# Altium integrated library Renesas Microprocessor SuperH.IntLib: 433 symbols (part 30 of 62)
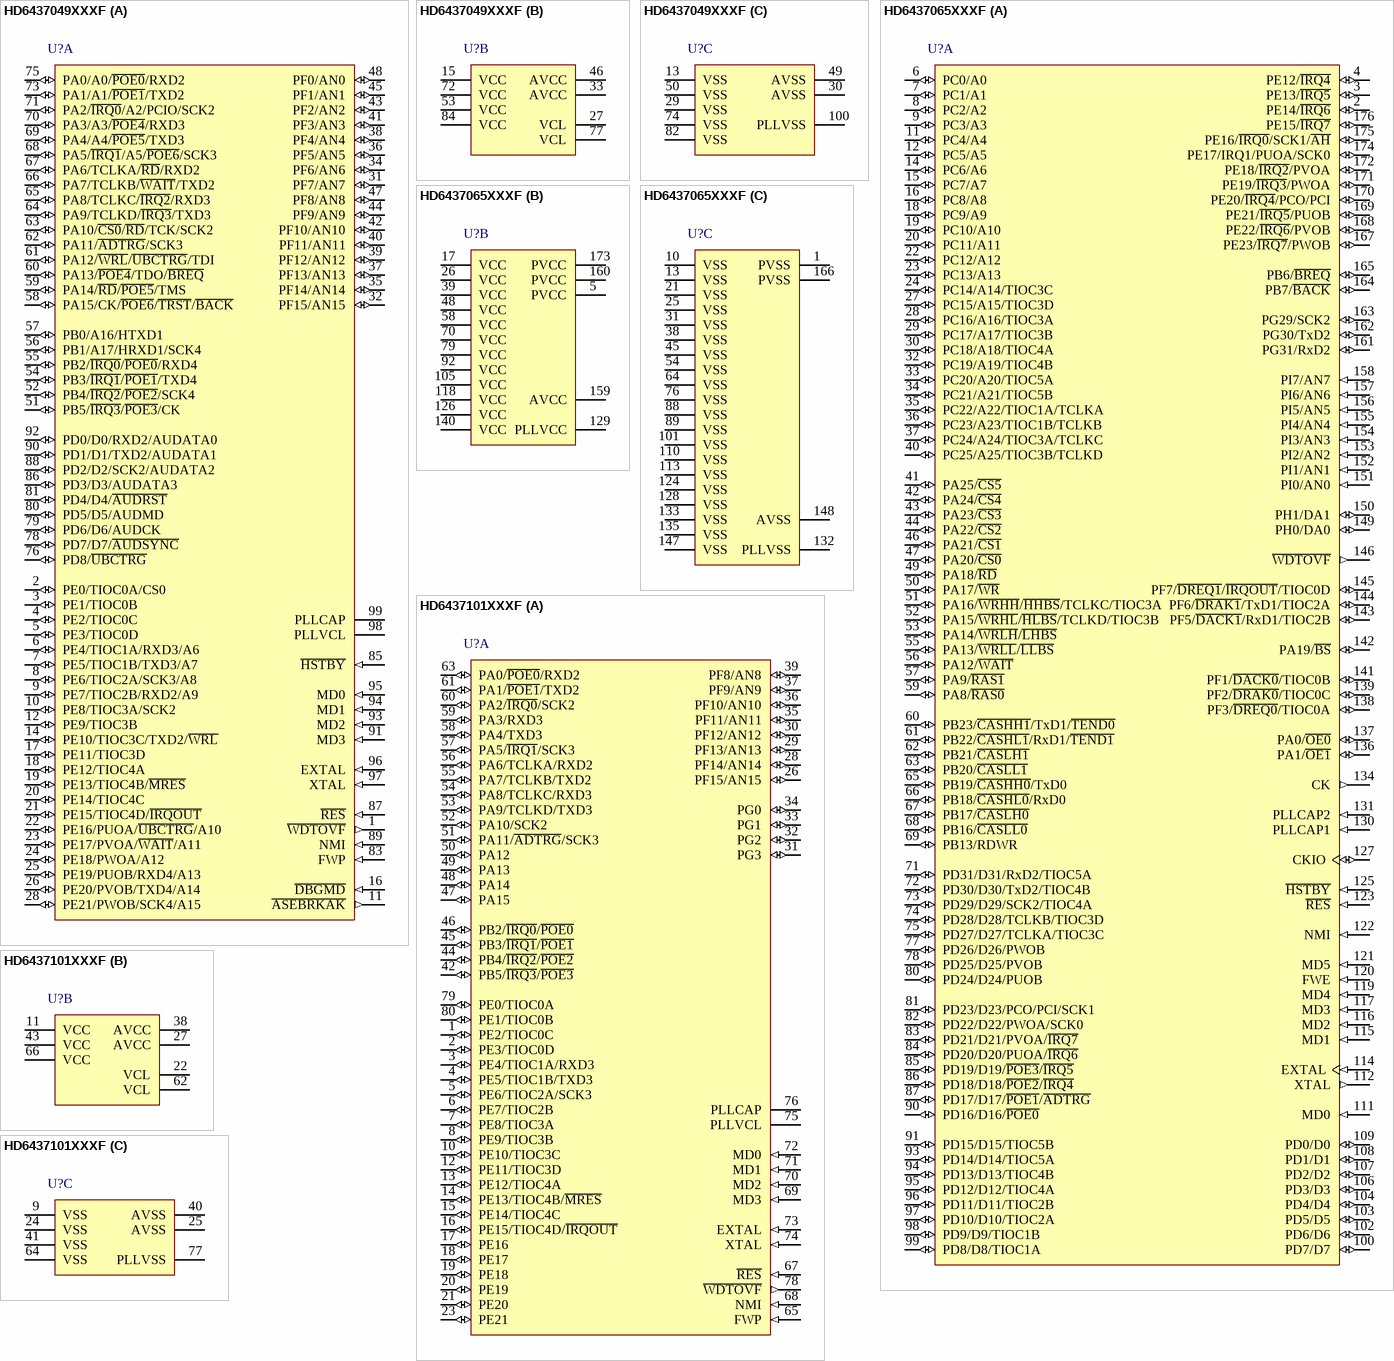
[diagram p400: symbols HD6437049XXXF to HD6437101XXXF]

## HD6437101XXXF
designator U?
32-Bit RISC Microcomputer, SH7046 Series, SH-2 core, 40MHz, 32K ROM, 2K RAM, PRQP0080JD-A (FP-80Q) Package; Published: 28-Aug-2009; DatasheetVersion: Rev.2.00, Sep-2007; PackageVersion: Sep-2005; PackageReference: PRQP0080JD-A; Publisher: Altium Limited; PackageDescription: 80-Pin Plastic Quad Flat Pack, 14 x 14 x 2.7 mm Body, 0.65 mm Pitch; Code_JEITA: P-QFP80-14x14-0.65; Code_IPC: QFP65P1720X1720-80; ComponentLink1Description: Manufacturer Link; ComponentLink1URL: http://www.renesas.com/fmwk.jsp?cnt=sh7046_root.jsp&fp=/products/mpumcu/superh_family/sh7046_series/sh7046_group/; ComponentLink2Description: Datasheet; ComponentLink2URL: http://documentation.renesas.com/eng/products/mpumcu/rej09b0394_7101hm.pdf; ComponentLink3Description: Packaging Specification; ComponentLink3URL: http://sg.renesas.com/media/products/common_info/package/pdf/ic/code/prqp0080jd_a.pdf
footprint PRQP0080JD-A_N (QFP, 80-Leads, Body 14x14mm, Pitch 0.65mm, IPC Medium Density)
footprint PRQP0080JD-A_L (QFP, 80-Leads, Body 14x14mm, Pitch 0.65mm, IPC High Density)
footprint PRQP0080JD-A_M (QFP, 80-Leads, Body 14x14mm, Pitch 0.65mm, IPC Low Density)
part A pins: 1 PE2/TIOC0C (io), 2 PE3/TIOC0D (io), 3 PE4/TIOC1A/RXD3 (io), 4 PE5/TIOC1B/TXD3 (io), 5 PE6/TIOC2A/SCK3 (io), 6 PE7/TIOC2B (io), 7 PE8/TIOC3A (io), 8 PE9/TIOC3B (io), 10 PE10/TIOC3C (io), 12 PE11/TIOC3D (io), 13 PE12/TIOC4A (io), 14 PE13/TIOC4B/~{MRES} (io), 15 PE14/TIOC4C (io), 16 PE15/TIOC4D/~{IRQOUT} (io), 17 PE16 (io), 18 PE17 (io), 19 PE18 (io), 20 PE19 (io), 21 PE20 (io), 23 PE21 (io), 26 PF15/AN15 (io), 28 PF14/AN14 (io), 29 PF13/AN13 (io), 30 PF12/AN12 (io), 31 PG3 (io), 32 PG2 (io), 33 PG1 (io), 34 PG0 (io), 35 PF11/AN11 (io), 36 PF10/AN10 (io), 37 PF9/AN9 (io), 39 PF8/AN8 (io), 42 PB5/~{IRQ3}/~{POE3} (io), 44 PB4/~{IRQ2}/~{POE2} (io), 45 PB3/~{IRQ1}/~{POE1} (io), 46 PB2/~{IRQ0}/~{POE0} (io), 47 PA15 (io), 48 PA14 (io), 49 PA13 (io), 50 PA12 (io), 51 PA11/~{ADTRG}/SCK3 (io), 52 PA10/SCK2 (io), 53 PA9/TCLKD/TXD3 (io), 54 PA8/TCLKC/RXD3 (io), 55 PA7/TCLKB/TXD2 (io), 56 PA6/TCLKA/RXD2 (io), 57 PA5/~{IRQ1}/SCK3 (io), 58 PA4/TXD3 (io), 59 PA3/RXD3 (io), 60 PA2/~{IRQ0}/SCK2 (io), 61 PA1/~{POE1}/TXD2 (io), 63 PA0/~{POE0}/RXD2 (io), 65 FWP (in), 67 ~{RES} (in), 68 NMI (in), 69 MD3 (in), 70 MD2 (in), 71 MD1 (in), 72 MD0 (in), 73 EXTAL (in), 74 XTAL (in), 75 PLLVCL, 76 PLLCAP, 78 ~{WDTOVF} (out), 79 PE0/TIOC0A (io), 80 PE1/TIOC0B (io)
part B pins: 11 VCC (power), 22 VCL, 27 AVCC (power), 38 AVCC (power), 43 VCC (power), 62 VCL, 66 VCC (power)
part C pins: 9 VSS (power), 24 VSS (power), 25 AVSS (power), 40 AVSS (power), 41 VSS (power), 64 VSS (power), 77 PLLVSS (power)

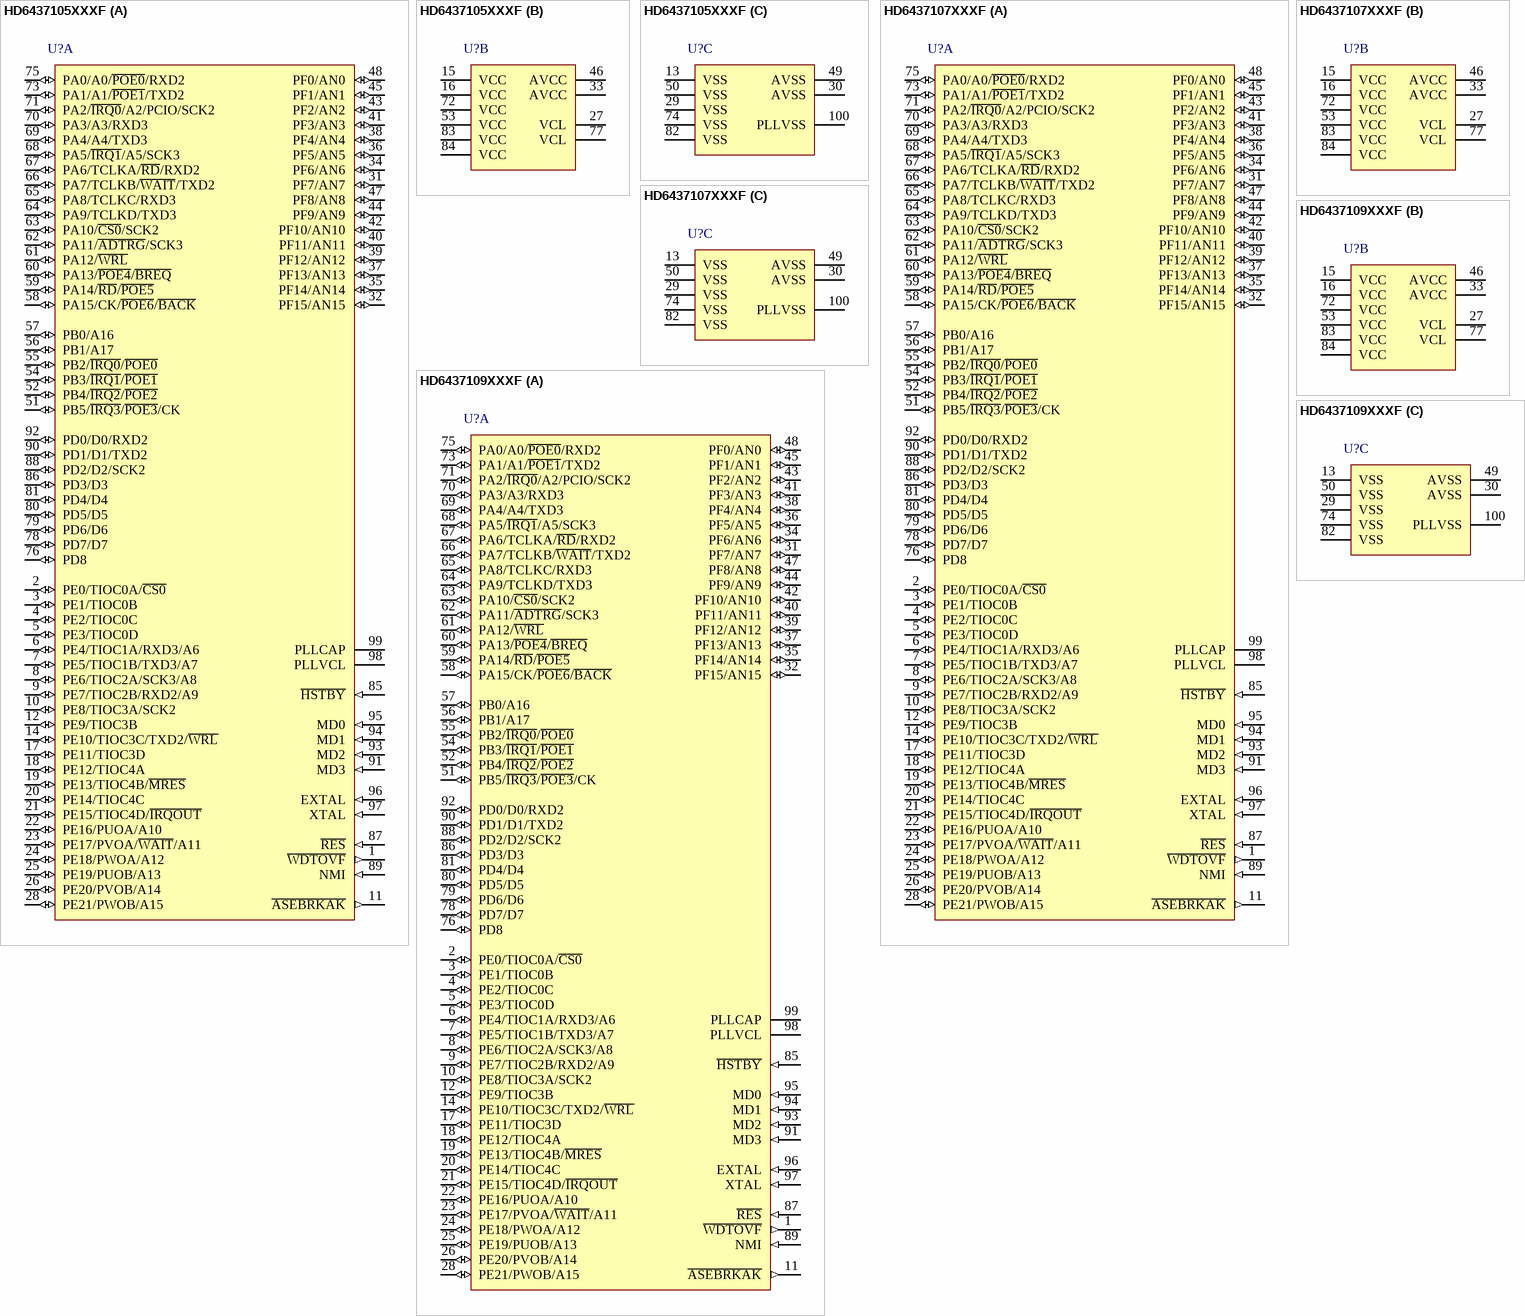
[diagram p110: symbols HD6437105XXXF to HD6437109XXXF]

## HD6437105XXXF
designator U?
32-Bit RISC Microcomputer, SH7047 Series, SH-2 core, 50MHz, 256K ROM, 8K RAM, PRQP0100KB-A (FP-100M) Package; Published: 28-Aug-2009; DatasheetVersion: Rev.1.00, Sep-2008; PackageVersion: Sep-2009; PackageReference: PRQP0100KB-A; Publisher: Altium Limited; PackageDescription: 100-Pin Plastic Quad Flat Pack, 14 x 14 x 2.7 mm Body, 0.5 mm Pitch; Code_JEITA: P-QFP100-14x14-0.50; ComponentLink1Description: Manufacturer Link; ComponentLink1URL: http://www.renesas.com/fmwk.jsp?cnt=sh7047_root.jsp&fp=/products/mpumcu/superh_family/sh7047_series/sh7047_group/; ComponentLink2Description: Datasheet; ComponentLink2URL: http://documentation.renesas.com/eng/products/mpumcu/rej09b0069_7108hm.pdf; ComponentLink3Description: Packaging Specification; ComponentLink3URL: http://sg.renesas.com/media/products/common_info/package/pdf/ic/code/prqp0100kb_a.pdf
footprint PRQP0100KB-A_N (Shrink QFP, 100-Leads, Body 14x14mm, Pitch 0.5mm, IPC Medium Density)
footprint PRQP0100KB-A_L (Shrink QFP, 100-Leads, Body 14x14mm, Pitch 0.5mm, IPC High Density)
footprint PRQP0100KB-A_M (Shrink QFP, 100-Leads, Body 14x14mm, Pitch 0.5mm, IPC Low Density)
part A pins: 1 ~{WDTOVF} (out), 2 PE0/TIOC0A/~{CS0} (io), 3 PE1/TIOC0B (io), 4 PE2/TIOC0C (io), 5 PE3/TIOC0D (io), 6 PE4/TIOC1A/RXD3/A6 (io), 7 PE5/TIOC1B/TXD3/A7 (io), 8 PE6/TIOC2A/SCK3/A8 (io), 9 PE7/TIOC2B/RXD2/A9 (io), 10 PE8/TIOC3A/SCK2 (io), 11 ~{ASEBRKAK} (out), 12 PE9/TIOC3B (io), 14 PE10/TIOC3C/TXD2/~{WRL} (io), 17 PE11/TIOC3D (io), 18 PE12/TIOC4A (io), 19 PE13/TIOC4B/~{MRES} (io), 20 PE14/TIOC4C (io), 21 PE15/TIOC4D/~{IRQOUT} (io), 22 PE16/PUOA/A10 (io), 23 PE17/PVOA/~{WAIT}/A11 (io), 24 PE18/PWOA/A12 (io), 25 PE19/PUOB/A13 (io), 26 PE20/PVOB/A14 (io), 28 PE21/PWOB/A15 (io), 31 PF7/AN7 (io), 32 PF15/AN15 (io), 34 PF6/AN6 (io), 35 PF14/AN14 (io), 36 PF5/AN5 (io), 37 PF13/AN13 (io), 38 PF4/AN4 (io), 39 PF12/AN12 (io), 40 PF11/AN11 (io), 41 PF3/AN3 (io), 42 PF10/AN10 (io), 43 PF2/AN2 (io), 44 PF9/AN9 (io), 45 PF1/AN1 (io), 47 PF8/AN8 (io), 48 PF0/AN0 (io), 51 PB5/~{IRQ3}/~{POE3}/CK (io), 52 PB4/~{IRQ2}/~{POE2} (io), 54 PB3/~{IRQ1}/~{POE1} (io), 55 PB2/~{IRQ0}/~{POE0} (io), 56 PB1/A17 (io), 57 PB0/A16 (io), 58 PA15/CK/~{POE6}/~{BACK} (io), 59 PA14/~{RD}/~{POE5} (io), 60 PA13/~{POE4}/~{BREQ} (io), 61 PA12/~{WRL} (io), 62 PA11/~{ADTRG}/SCK3 (io), 63 PA10/~{CS0}/SCK2 (io), 64 PA9/TCLKD/TXD3 (io), 65 PA8/TCLKC/RXD3 (io), 66 PA7/TCLKB/~{WAIT}/TXD2 (io), 67 PA6/TCLKA/~{RD}/RXD2 (io), 68 PA5/~{IRQ1}/A5/SCK3 (io), 69 PA4/A4/TXD3 (io), 70 PA3/A3/RXD3 (io), 71 PA2/~{IRQ0}/A2/PCIO/SCK2 (io), 73 PA1/A1/~{POE1}/TXD2 (io), 75 PA0/A0/~{POE0}/RXD2 (io), 76 PD8 (io), 78 PD7/D7 (io), 79 PD6/D6 (io), 80 PD5/D5 (io), 81 PD4/D4 (io), 85 ~{HSTBY} (in), 86 PD3/D3 (io), 87 ~{RES} (in), 88 PD2/D2/SCK2 (io), 89 NMI (in), 90 PD1/D1/TXD2 (io), 91 MD3 (in), 92 PD0/D0/RXD2 (io), 93 MD2 (in), 94 MD1 (in), 95 MD0 (in), 96 EXTAL (in), 97 XTAL (in), 98 PLLVCL, 99 PLLCAP
part B pins: 15 VCC (power), 16 VCC (power), 27 VCL, 33 AVCC (power), 46 AVCC (power), 53 VCC (power), 72 VCC (power), 77 VCL, 83 VCC (power), 84 VCC (power)
part C pins: 13 VSS (power), 29 VSS (power), 30 AVSS (power), 49 AVSS (power), 50 VSS (power), 74 VSS (power), 82 VSS (power), 100 PLLVSS (power)

## HD6437107XXXF
designator U?
32-Bit RISC Microcomputer, SH7047 Series, SH-2 core, 50MHz, 64K ROM, 4K RAM, PRQP0100KB-A (FP-100M) Package; Published: 28-Aug-2009; DatasheetVersion: Rev.1.00, Sep-2008; PackageVersion: Sep-2009; PackageReference: PRQP0100KB-A; Publisher: Altium Limited; PackageDescription: 100-Pin Plastic Quad Flat Pack, 14 x 14 x 2.7 mm Body, 0.5 mm Pitch; Code_JEITA: P-QFP100-14x14-0.50; ComponentLink1Description: Manufacturer Link; ComponentLink1URL: http://www.renesas.com/fmwk.jsp?cnt=sh7047_root.jsp&fp=/products/mpumcu/superh_family/sh7047_series/sh7047_group/; ComponentLink2Description: Datasheet; ComponentLink2URL: http://documentation.renesas.com/eng/products/mpumcu/rej09b0069_7108hm.pdf; ComponentLink3Description: Packaging Specification; ComponentLink3URL: http://sg.renesas.com/media/products/common_info/package/pdf/ic/code/prqp0100kb_a.pdf
footprint PRQP0100KB-A_N (Shrink QFP, 100-Leads, Body 14x14mm, Pitch 0.5mm, IPC Medium Density)
footprint PRQP0100KB-A_L (Shrink QFP, 100-Leads, Body 14x14mm, Pitch 0.5mm, IPC High Density)
footprint PRQP0100KB-A_M (Shrink QFP, 100-Leads, Body 14x14mm, Pitch 0.5mm, IPC Low Density)
part A pins: 1 ~{WDTOVF} (out), 2 PE0/TIOC0A/~{CS0} (io), 3 PE1/TIOC0B (io), 4 PE2/TIOC0C (io), 5 PE3/TIOC0D (io), 6 PE4/TIOC1A/RXD3/A6 (io), 7 PE5/TIOC1B/TXD3/A7 (io), 8 PE6/TIOC2A/SCK3/A8 (io), 9 PE7/TIOC2B/RXD2/A9 (io), 10 PE8/TIOC3A/SCK2 (io), 11 ~{ASEBRKAK} (out), 12 PE9/TIOC3B (io), 14 PE10/TIOC3C/TXD2/~{WRL} (io), 17 PE11/TIOC3D (io), 18 PE12/TIOC4A (io), 19 PE13/TIOC4B/~{MRES} (io), 20 PE14/TIOC4C (io), 21 PE15/TIOC4D/~{IRQOUT} (io), 22 PE16/PUOA/A10 (io), 23 PE17/PVOA/~{WAIT}/A11 (io), 24 PE18/PWOA/A12 (io), 25 PE19/PUOB/A13 (io), 26 PE20/PVOB/A14 (io), 28 PE21/PWOB/A15 (io), 31 PF7/AN7 (io), 32 PF15/AN15 (io), 34 PF6/AN6 (io), 35 PF14/AN14 (io), 36 PF5/AN5 (io), 37 PF13/AN13 (io), 38 PF4/AN4 (io), 39 PF12/AN12 (io), 40 PF11/AN11 (io), 41 PF3/AN3 (io), 42 PF10/AN10 (io), 43 PF2/AN2 (io), 44 PF9/AN9 (io), 45 PF1/AN1 (io), 47 PF8/AN8 (io), 48 PF0/AN0 (io), 51 PB5/~{IRQ3}/~{POE3}/CK (io), 52 PB4/~{IRQ2}/~{POE2} (io), 54 PB3/~{IRQ1}/~{POE1} (io), 55 PB2/~{IRQ0}/~{POE0} (io), 56 PB1/A17 (io), 57 PB0/A16 (io), 58 PA15/CK/~{POE6}/~{BACK} (io), 59 PA14/~{RD}/~{POE5} (io), 60 PA13/~{POE4}/~{BREQ} (io), 61 PA12/~{WRL} (io), 62 PA11/~{ADTRG}/SCK3 (io), 63 PA10/~{CS0}/SCK2 (io), 64 PA9/TCLKD/TXD3 (io), 65 PA8/TCLKC/RXD3 (io), 66 PA7/TCLKB/~{WAIT}/TXD2 (io), 67 PA6/TCLKA/~{RD}/RXD2 (io), 68 PA5/~{IRQ1}/A5/SCK3 (io), 69 PA4/A4/TXD3 (io), 70 PA3/A3/RXD3 (io), 71 PA2/~{IRQ0}/A2/PCIO/SCK2 (io), 73 PA1/A1/~{POE1}/TXD2 (io), 75 PA0/A0/~{POE0}/RXD2 (io), 76 PD8 (io), 78 PD7/D7 (io), 79 PD6/D6 (io), 80 PD5/D5 (io), 81 PD4/D4 (io), 85 ~{HSTBY} (in), 86 PD3/D3 (io), 87 ~{RES} (in), 88 PD2/D2/SCK2 (io), 89 NMI (in), 90 PD1/D1/TXD2 (io), 91 MD3 (in), 92 PD0/D0/RXD2 (io), 93 MD2 (in), 94 MD1 (in), 95 MD0 (in), 96 EXTAL (in), 97 XTAL (in), 98 PLLVCL, 99 PLLCAP
part B pins: 15 VCC (power), 16 VCC (power), 27 VCL, 33 AVCC (power), 46 AVCC (power), 53 VCC (power), 72 VCC (power), 77 VCL, 83 VCC (power), 84 VCC (power)
part C pins: 13 VSS (power), 29 VSS (power), 30 AVSS (power), 49 AVSS (power), 50 VSS (power), 74 VSS (power), 82 VSS (power), 100 PLLVSS (power)

## HD6437109XXXF
designator U?
32-Bit RISC Microcomputer, SH7047 Series, SH-2 core, 50MHz, 128K ROM, 4K RAM, PRQP0100KB-A (FP-100M) Package; Published: 28-Aug-2009; DatasheetVersion: Rev.1.00, Sep-2008; PackageVersion: Sep-2009; PackageReference: PRQP0100KB-A; Publisher: Altium Limited; PackageDescription: 100-Pin Plastic Quad Flat Pack, 14 x 14 x 2.7 mm Body, 0.5 mm Pitch; Code_JEITA: P-QFP100-14x14-0.50; ComponentLink1Description: Manufacturer Link; ComponentLink1URL: http://www.renesas.com/fmwk.jsp?cnt=sh7047_root.jsp&fp=/products/mpumcu/superh_family/sh7047_series/sh7047_group/; ComponentLink2Description: Datasheet; ComponentLink2URL: http://documentation.renesas.com/eng/products/mpumcu/rej09b0069_7108hm.pdf; ComponentLink3Description: Packaging Specification; ComponentLink3URL: http://sg.renesas.com/media/products/common_info/package/pdf/ic/code/prqp0100kb_a.pdf
footprint PRQP0100KB-A_N (Shrink QFP, 100-Leads, Body 14x14mm, Pitch 0.5mm, IPC Medium Density)
footprint PRQP0100KB-A_L (Shrink QFP, 100-Leads, Body 14x14mm, Pitch 0.5mm, IPC High Density)
footprint PRQP0100KB-A_M (Shrink QFP, 100-Leads, Body 14x14mm, Pitch 0.5mm, IPC Low Density)
part A pins: 1 ~{WDTOVF} (out), 2 PE0/TIOC0A/~{CS0} (io), 3 PE1/TIOC0B (io), 4 PE2/TIOC0C (io), 5 PE3/TIOC0D (io), 6 PE4/TIOC1A/RXD3/A6 (io), 7 PE5/TIOC1B/TXD3/A7 (io), 8 PE6/TIOC2A/SCK3/A8 (io), 9 PE7/TIOC2B/RXD2/A9 (io), 10 PE8/TIOC3A/SCK2 (io), 11 ~{ASEBRKAK} (out), 12 PE9/TIOC3B (io), 14 PE10/TIOC3C/TXD2/~{WRL} (io), 17 PE11/TIOC3D (io), 18 PE12/TIOC4A (io), 19 PE13/TIOC4B/~{MRES} (io), 20 PE14/TIOC4C (io), 21 PE15/TIOC4D/~{IRQOUT} (io), 22 PE16/PUOA/A10 (io), 23 PE17/PVOA/~{WAIT}/A11 (io), 24 PE18/PWOA/A12 (io), 25 PE19/PUOB/A13 (io), 26 PE20/PVOB/A14 (io), 28 PE21/PWOB/A15 (io), 31 PF7/AN7 (io), 32 PF15/AN15 (io), 34 PF6/AN6 (io), 35 PF14/AN14 (io), 36 PF5/AN5 (io), 37 PF13/AN13 (io), 38 PF4/AN4 (io), 39 PF12/AN12 (io), 40 PF11/AN11 (io), 41 PF3/AN3 (io), 42 PF10/AN10 (io), 43 PF2/AN2 (io), 44 PF9/AN9 (io), 45 PF1/AN1 (io), 47 PF8/AN8 (io), 48 PF0/AN0 (io), 51 PB5/~{IRQ3}/~{POE3}/CK (io), 52 PB4/~{IRQ2}/~{POE2} (io), 54 PB3/~{IRQ1}/~{POE1} (io), 55 PB2/~{IRQ0}/~{POE0} (io), 56 PB1/A17 (io), 57 PB0/A16 (io), 58 PA15/CK/~{POE6}/~{BACK} (io), 59 PA14/~{RD}/~{POE5} (io), 60 PA13/~{POE4}/~{BREQ} (io), 61 PA12/~{WRL} (io), 62 PA11/~{ADTRG}/SCK3 (io), 63 PA10/~{CS0}/SCK2 (io), 64 PA9/TCLKD/TXD3 (io), 65 PA8/TCLKC/RXD3 (io), 66 PA7/TCLKB/~{WAIT}/TXD2 (io), 67 PA6/TCLKA/~{RD}/RXD2 (io), 68 PA5/~{IRQ1}/A5/SCK3 (io), 69 PA4/A4/TXD3 (io), 70 PA3/A3/RXD3 (io), 71 PA2/~{IRQ0}/A2/PCIO/SCK2 (io), 73 PA1/A1/~{POE1}/TXD2 (io), 75 PA0/A0/~{POE0}/RXD2 (io), 76 PD8 (io), 78 PD7/D7 (io), 79 PD6/D6 (io), 80 PD5/D5 (io), 81 PD4/D4 (io), 85 ~{HSTBY} (in), 86 PD3/D3 (io), 87 ~{RES} (in), 88 PD2/D2/SCK2 (io), 89 NMI (in), 90 PD1/D1/TXD2 (io), 91 MD3 (in), 92 PD0/D0/RXD2 (io), 93 MD2 (in), 94 MD1 (in), 95 MD0 (in), 96 EXTAL (in), 97 XTAL (in), 98 PLLVCL, 99 PLLCAP
part B pins: 15 VCC (power), 16 VCC (power), 27 VCL, 33 AVCC (power), 46 AVCC (power), 53 VCC (power), 72 VCC (power), 77 VCL, 83 VCC (power), 84 VCC (power)
part C pins: 13 VSS (power), 29 VSS (power), 30 AVSS (power), 49 AVSS (power), 50 VSS (power), 74 VSS (power), 82 VSS (power), 100 PLLVSS (power)

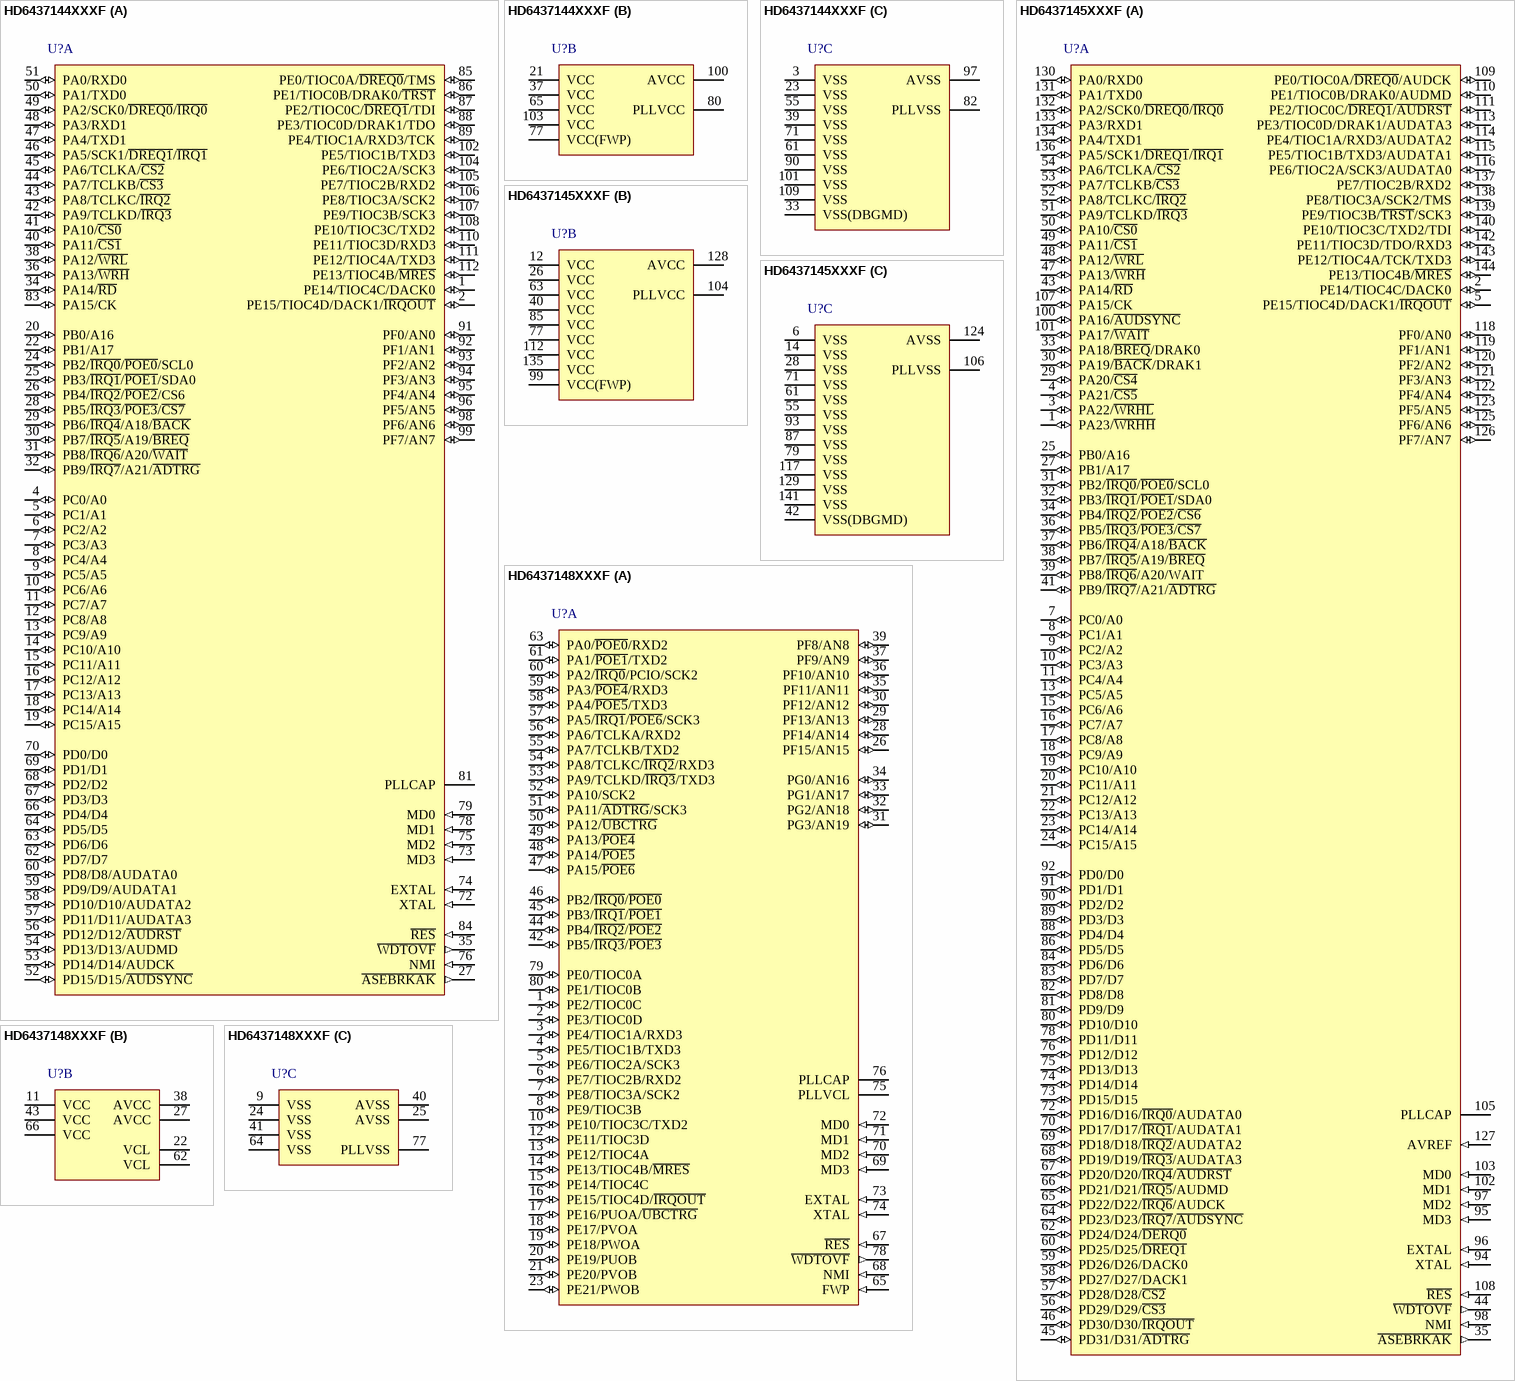
[diagram p111: symbols HD6437144XXXF to HD6437148XXXF]